# Altium schematic symbol library 2020-06-14_22-37-07.SchLib: 2 symbols
Pins are listed as number, name and electrical type; pins without a type are passive.

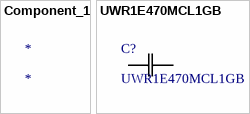
[diagram p0: symbols Component_1 to UWR1E470MCL1GB]

## Component_1
designator *

## UWR1E470MCL1GB
designator C?
No Description Available; Vendor: Nichicon; Built_By: EMA_Cory; SourceLibrary: Nichicon_2019-09-13; Type: DEV; Manufacturer_Part_Number: UWR1E470MCL1GB; Copyright: Copyright (C) 2018 Accelerated Designs. All rights reserved; RefDes: RefDes
footprint CAP_UWF_6P3X5P4_
pins: 1, 2